# EAGLE library part RPI-B-V1 (library raspberry)
First revision of the Model B board without P5 and P6 headers and mounting holes. Choose the "SHIELD" variant for a predefined Dimension layer.
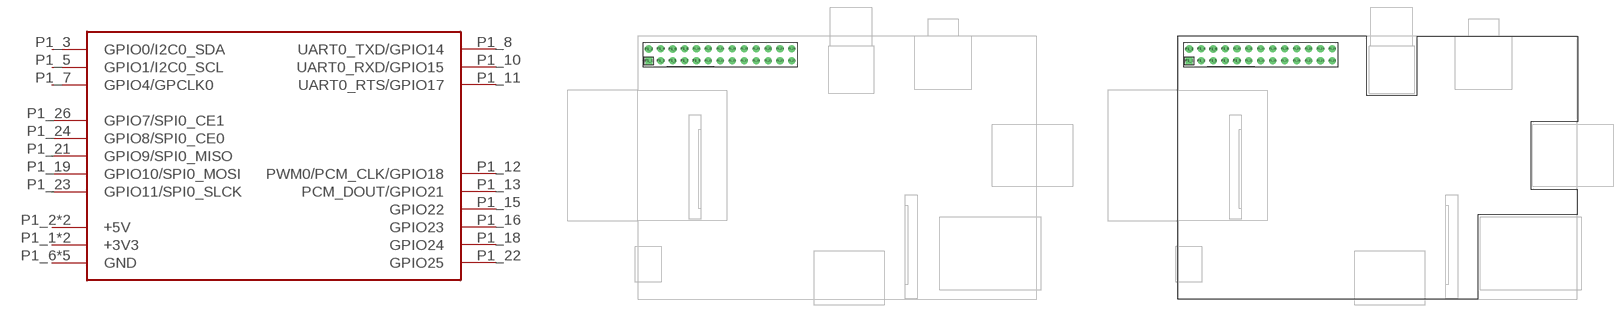
[diagram p1: symbol with the pads of RPI-B-V1; footprints RPI-B-V1, RPI-B-V1-SHIELD]

Designator prefix -

## RPI-B-V1  [RPI-B-V1]
P1_1  +3V3  pwr
P1_2  +5V  pwr
P1_3  GPIO0/I2C0_SDA
P1_4  +5V  pwr
P1_5  GPIO1/I2C0_SCL
P1_6  GND  pwr
P1_7  GPIO4/GPCLK0
P1_8  UART0_TXD/GPIO14
P1_9  GND  pwr
P1_10  UART0_RXD/GPIO15
P1_11  UART0_RTS/GPIO17
P1_12  PWM0/PCM_CLK/GPIO18
P1_13  PCM_DOUT/GPIO21
P1_14  GND  pwr
P1_15  GPIO22
P1_16  GPIO23
P1_17  +3V3  pwr
P1_18  GPIO24
P1_19  GPIO10/SPI0_MOSI
P1_20  GND  pwr
P1_21  GPIO9/SPI0_MISO
P1_22  GPIO25
P1_23  GPIO11/SPI0_SLCK
P1_24  GPIO8/SPI0_CE0
P1_25  GND  pwr
P1_26  GPIO7/SPI0_CE1

## RPI-B-V1SHIELD  [RPI-B-V1-SHIELD]
Pads as for RPI-B-V1

## Footprint RPI-B-V1 (pad centres in mm)
drill 1 square: P1_1 2.54,3.81
drill 1 pad 1.676: P1_2 2.54,6.35; P1_6 7.62,6.35
drill 1: P1_3 5.08,3.81; P1_4 5.08,6.35; P1_5 7.62,3.81; P1_7 10.16,3.81; P1_8 10.16,6.35; P1_9 12.7,3.81; P1_10 12.7,6.35; P1_11 15.24,3.81; P1_12 15.24,6.35; P1_13 17.78,3.81; P1_14 17.78,6.35; P1_15 20.32,3.81; P1_16 20.32,6.35; P1_17 22.86,3.81; P1_18 22.86,6.35; P1_19 25.4,3.81; P1_20 25.4,6.35; P1_21 27.94,3.81; P1_22 27.94,6.35; P1_23 30.48,3.81; P1_24 30.48,6.35; P1_25 33.02,3.81; P1_26 33.02,6.35

## Footprint RPI-B-V1-SHIELD (pad centres in mm)
drill 1 square: P1_1 0,0
drill 1 pad 1.676: P1_2 0,2.54; P1_6 5.08,2.54
drill 1: P1_3 2.54,0; P1_4 2.54,2.54; P1_5 5.08,0; P1_7 7.62,0; P1_8 7.62,2.54; P1_9 10.16,0; P1_10 10.16,2.54; P1_11 12.7,0; P1_12 12.7,2.54; P1_13 15.24,0; P1_14 15.24,2.54; P1_15 17.78,0; P1_16 17.78,2.54; P1_17 20.32,0; P1_18 20.32,2.54; P1_19 22.86,0; P1_20 22.86,2.54; P1_21 25.4,0; P1_22 25.4,2.54; P1_23 27.94,0; P1_24 27.94,2.54; P1_25 30.48,0; P1_26 30.48,2.54